# EAGLE library part 10-PIN-HEADER (library SmartBike)
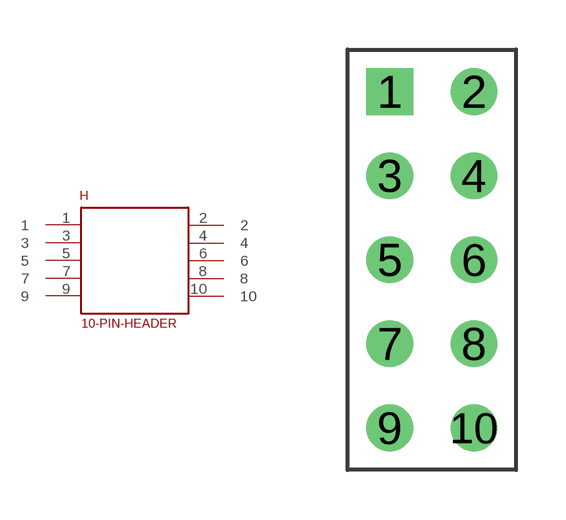
[diagram p3: symbol with the pads of 10-PIN-HEADER; footprint 10-PIN-HEADER]

Designator prefix H

## 10-PIN-HEADER  [10-PIN-HEADER]
1  1
2  2
3  3
4  4
5  5
6  6
7  7
8  8
9  9
10  10

## Footprint 10-PIN-HEADER (pad centres in mm)
drill 0.9 square: 1 0,12.7
drill 0.9: 2 2.54,12.7; 3 0,10.16; 4 2.54,10.16; 5 0,7.62; 6 2.54,7.62; 7 0,5.08; 8 2.54,5.08; 9 0,2.54; 10 2.54,2.54